# Altium footprint library BasicEle.PcbLib: 25 footprints (part 2 of 2)
Each footprint in its own frame and in the unit in brackets; x right, y up, seen from the top. Pads: shape width x height; smd on the part's side, far side on the other; paste and mask are expansions set on the pad; w line width, h text height; cw(c..) or ccw(c..) is an arc to the next point about the centre after c.
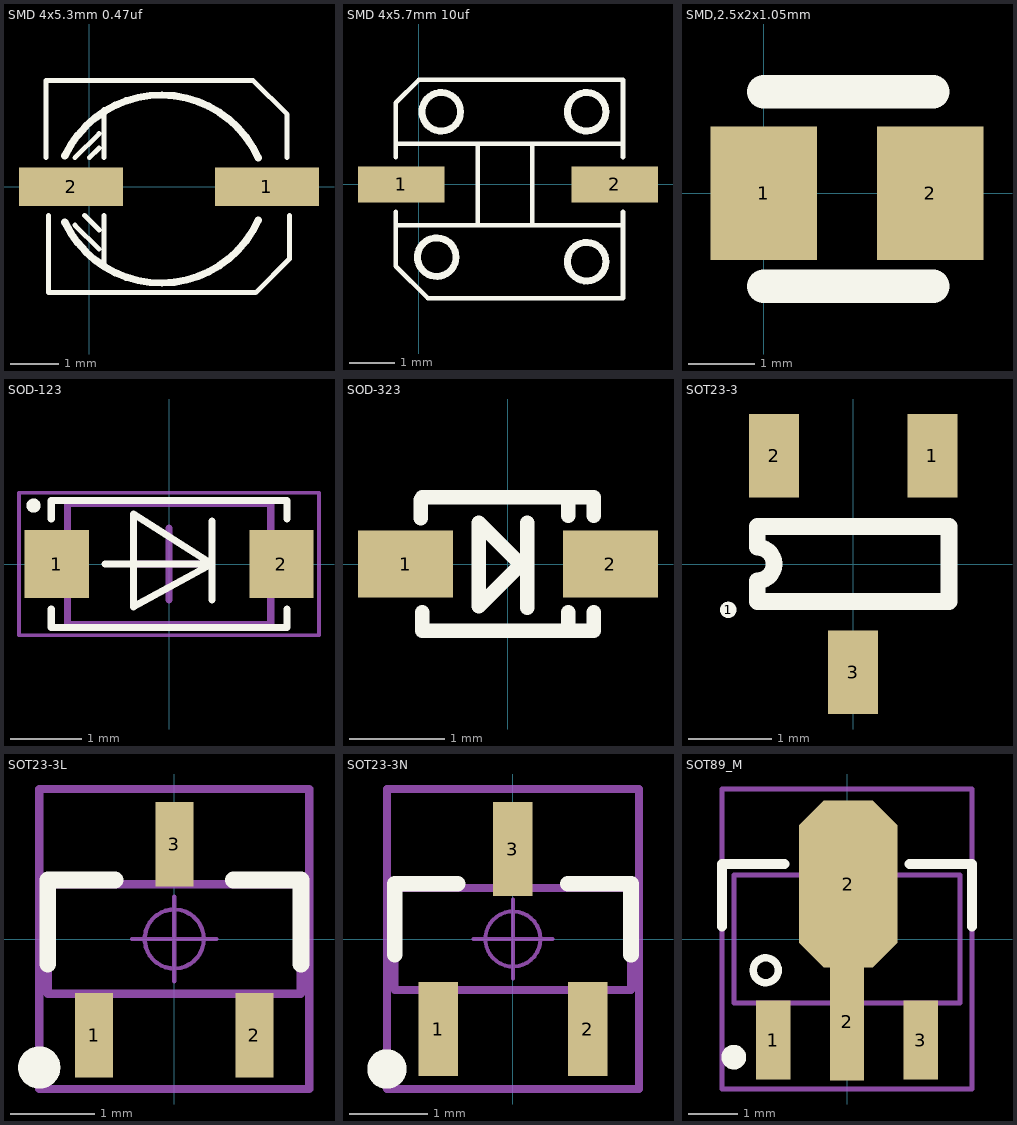
[diagram p1: the footprints below, top view; thin cyan lines are the x and y axes]

## SMD 4x5.3mm 0.47uf [mil]
pads (2):
  rect 85x31.5 smd: 1(145,0) 2(-15,0)
Top Overlay:
  lines w3.94: -35.43,23.62 -35.43,86.61 133.86,86.61 161.42,59.06 161.42,23.62 ; -33.46,-23.62 -33.46,-86.61 135.83,-86.61 163.39,-59.06 163.39,-23.62 ; -11.81,-31.5 7.87,-51.18 ; 11.81,-62.99 11.81,-23.62 ; 11.81,23.62 11.81,62.99 ; -11.81,23.62 ccw(c-11.81,23.62) -11.81,23.62 ; -11.81,23.62 7.87,43.31 ; -3.94,-23.62 ccw(c-3.94,-23.62) -3.94,-23.62 ; -3.94,-23.62 7.87,-35.43 ; 0,23.62 ccw(c0,23.62) 0,23.62 ; 0,23.62 7.87,31.5 ; 7.87,-35.43 ccw(c7.87,-35.43) 7.87,-35.43 ; 7.87,31.5 ccw(c7.87,31.5) 7.87,31.5 ; 7.87,43.31 ccw(c7.87,43.31) 7.87,43.31
  lines w5.98: -20.04,-29.01 ccw(c58.54,8.21) 137.8,-27.56 ; -20.04,25.08 cw(c58.54,-12.15) 137.8,23.62
3D body: height 217.43, standoff -15.9, extent -45.2,-88.96 176.79,81.08

## SMD 4x5.7mm 10uf [mm]
pads (2):
  rect 1.905x0.8 smd: 1(-0.381,0) 2(4.318,0)
Top Overlay:
  circle w0.152: c0.4,-1.6 r0.424
  circle w0.152: c3.7,-1.7 r0.424
  circle w0.152: c3.7,1.6 r0.424
  circle w0.152: c0.5,1.6 r0.424
  lines w0.1: -0.5,-0.6 -0.5,-0.9 ; -0.5,0.6 -0.5,0.9 ; 1.3,0.9 1.3,-0.9 2.5,-0.9 2.5,0.9 ; 4.5,-0.6 4.5,-0.9 ; 4.5,0.6 4.5,0.9 ; -0.5,-0.9 -0.5,-1.8 0.2,-2.5 4.5,-2.5 4.5,-0.9 ; -0.5,-0.9 4.5,-0.9 ; -0.5,0.9 4.5,0.9 ; -0.5,0.9 -0.5,1.8 0,2.3 4.5,2.3 4.5,0.9
3D body: height 5.52, standoff -0.4, extent -0.839,-2.16 4.8,2.16

## SMD,2.5x2x1.05mm [mm] "功率电感"
height 1
pads (2):
  rect 1.6x2 smd: 1(0,0) 2(2.5,0)
Top Overlay:
  lines w0.5: 0,-1.397 2.54,-1.397 ; 0,1.524 2.54,1.524

## SOD-123 [mm] "1N4148W"
height 1.35
pads (2):
  rect 0.9x0.95 smd: 1(-1.575,0) 2(1.575,0)
Top Overlay:
  circle w0.1: c-1.899,0.819 r0.05
  lines w0.1: -1.651,-0.635 -1.651,-0.889 1.651,-0.889 1.651,-0.635 ; -1.651,0.635 -1.651,0.889 1.651,0.889 1.651,0.635 ; -0.9,0 0.6,0 ; 0.6,-0.5 0.6,0.6 ; 0.6,0 -0.5,-0.6 -0.5,0.7 0.6,0
Mechanical 13:
  lines w0.1: -1.425,-0.85 -1.425,0.85 1.425,0.85 1.425,-0.85 -1.425,-0.85
Mechanical 15:
  lines w0.05: -2.103,-1 -2.103,1 2.101,1 2.101,-1 -2.103,-1
  lines w0.1: -0.5,0 0.5,0 ; 0,-0.5 0,0.5
3D body: height 1.27, standoff 0, extent -1.85,-0.8 1.85,0.8

## SOD-323 [mm]
pads (2):
  rect 1x0.7 smd: 1(-1.075,0) 2(1.075,0)
Top Overlay:
  lines w0.152: -0.914,0.483 -0.914,0.675 ; -0.9,-0.508 -0.9,-0.7 0.9,-0.7 0.9,-0.508 ; -0.9,0.7 0.9,0.7 0.9,0.508 ; 0.203,-0.457 0.203,0.432 ; 0.635,-0.7 0.635,-0.508 ; 0.635,0.508 0.635,0.7 ; -0.305,-0.443 -0.305,0.432 0.133,-0.006 -0.305,-0.443
3D body: height 0.9, standoff -0.09, extent -1.25,-0.635 1.25,0.615

## SOT23-3 [mm] "SOT23-3"
pads (4):
  round 0.2 on Top Overlay: 1(-1.5,-0.55)
  rect 0.6x1 smd: 1(0.95,1.3) 2(-0.95,1.3) 3(0,-1.3)
Top Overlay:
  lines w0.2: -1.15,-0.45 1.15,-0.45 1.15,0.45 -1.15,0.45 -1.15,0.2 cw(c-1.15,0) -1.15,-0.2 -1.15,-0.45
3D body: height 1.3, standoff 0, extent -1.45,-1.4 1.45,1.4

## SOT23-3L [mm]
pads (3):
  rect 0.45x1 smd: 1(-0.95,-1.143) 2(0.95,-1.143) 3(0,1.125)
Top Overlay:
  circle w0.25: c-1.6,-1.524 r0.125
  lines w0.2: -1.5,-0.3 -1.5,0.7 -0.7,0.7 ; 0.7,0.7 1.5,0.7 1.5,-0.3
Mechanical 13:
  lines w0.1: -1.5,-0.65 1.5,-0.65 1.5,0.65 -1.5,0.65 -1.5,-0.65
Mechanical 15:
  circle w0.05: c0,0 r0.35
  lines w0.05: -0.5,0 0.5,0 ; 0,-0.5 0,0.5
  lines w0.1: -1.6,-1.778 1.6,-1.778 1.6,1.778 -1.6,1.778 -1.6,-1.778
3D body: height 1.05, standoff 0, extent -1.5,-1.2 1.5,1.2

## SOT23-3N [mm]
pads (3):
  rect 0.5x1.2 smd: 1(-0.95,-1.143) 2(0.95,-1.143) 3(0,1.143)
Top Overlay:
  circle w0.25: c-1.6,-1.651 r0.125
  lines w0.2: -1.501,-0.2 -1.501,0.7 -0.701,0.7 ; 0.699,0.7 1.499,0.7 1.499,-0.2
Mechanical 13:
  lines w0.1: -1.5,-0.65 1.5,-0.65 1.5,0.65 -1.5,0.65 -1.5,-0.65
Mechanical 15:
  circle w0.05: c0,0 r0.35
  lines w0.05: -0.5,0 0.5,0 ; 0,-0.5 0,0.5
  lines w0.1: -1.6,-1.905 1.6,-1.905 1.6,1.905 -1.6,1.905 -1.6,-1.905
3D body: height 1.05, standoff 0, extent -1.5,-1.2 1.5,1.2

## SOT89_M [mm]
pads (4):
  rect 0.7x1.6 smd: 1(-1.5,-2.054) 3(1.5,-2.054)
  rect 0.7x2.4 smd: 2(0,-1.676)
  oct 2x3.4 smd: 2(0.025,1.118)
Top Overlay:
  circle w0.25: c-2.3,-2.4 r0.125
  circle w0.15: c-1.651,-0.635 r0.254
  lines w0.2: -2.54,0.254 -2.54,1.524 -1.27,1.524 ; 1.27,1.524 2.54,1.524 2.54,0.254
Mechanical 13:
  circle w0.1: c-1.651,-0.635 r0.25
  lines w0.1: -2.3,-1.3 2.3,-1.3 2.3,1.3 -2.3,1.3 -2.3,-1.3
Mechanical 15:
  circle w0.05: c0,0 r0.35
  lines w0.05: -0.5,0 0.5,0 ; 0,-0.5 0,0.5
  lines w0.1: -2.54,-3.048 -2.54,3.048 2.54,3.048 2.54,-3.048 -2.54,-3.048
3D body: height 1.6, standoff 0.04, extent -2.3,-2.4 2.3,1.9